# EAGLE library part UCC27289 (library MDT_IC)
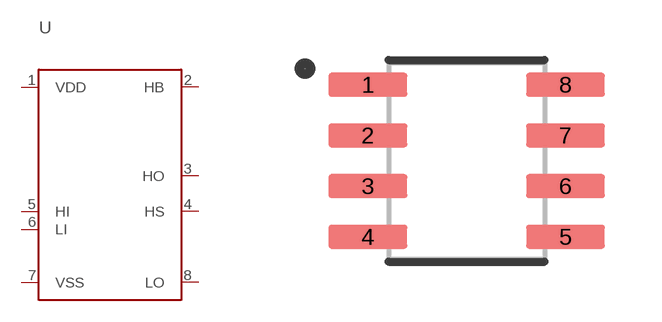
[diagram p2: symbol with the pads of SOIC-8; footprint SOIC-8]

Designator prefix U

## UCC27289SOIC-8  [SOIC-8]
1  VDD  pwr
2  HB  pas
3  HO  out
4  HS  pas
5  HI  in
6  LI  in
7  VSS  pwr
8  LO  out

## Footprint SOIC-8 (pad centres in mm)
smd 1.97 x 0.6: 1 -2.47,1.905; 2 -2.47,0.635; 3 -2.47,-0.635; 4 -2.47,-1.905; 5 2.47,-1.905; 6 2.47,-0.635; 7 2.47,0.635; 8 2.47,1.905